# EAGLE library part LMC6081AIMX (library IntegratedLib)
CMOS Single AMPOP (SO-8)
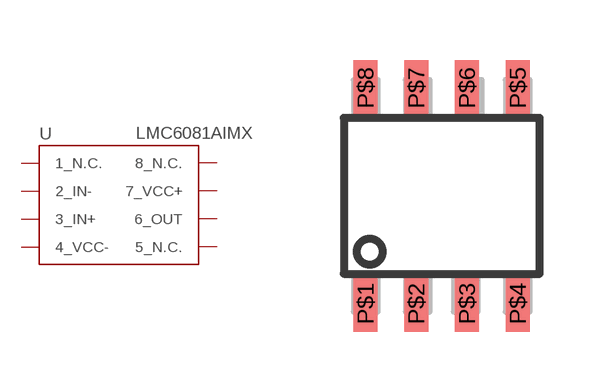
[diagram p3: symbol with the pads of SO-8N; footprint SO-8N]

Designator prefix U

## LMC6081AIMX (FABRICANTE: TEXAS INSTRUMENTS; PARTNUMBER: LMC6081AIMX; TIPO: CIRCUITO INTEGRADO)  [SO-8N]
P$1  1_N.C.
P$2  2_IN-
P$3  3_IN+
P$4  4_VCC-
P$5  5_N.C.
P$6  6_OUT
P$7  7_VCC+
P$8  8_N.C.

## Footprint SO-8N (pad centres in mm)
smd 0.6 x 1.4: P$1 -1.905,-2.7; P$2 -0.635,-2.7; P$3 0.635,-2.7; P$4 1.905,-2.7; P$5 1.905,2.7; P$6 0.635,2.7; P$7 -0.635,2.7; P$8 -1.905,2.7